# Altium footprint library SamacSys.PcbLib: 128 footprints (part 8 of 8)
Each footprint in its own frame and in the unit in brackets; x right, y up, seen from the top. Pads: shape width x height; smd on the part's side, far side on the other; paste and mask are expansions set on the pad; w line width, h text height; cw(c..) or ccw(c..) is an arc to the next point about the centre after c.
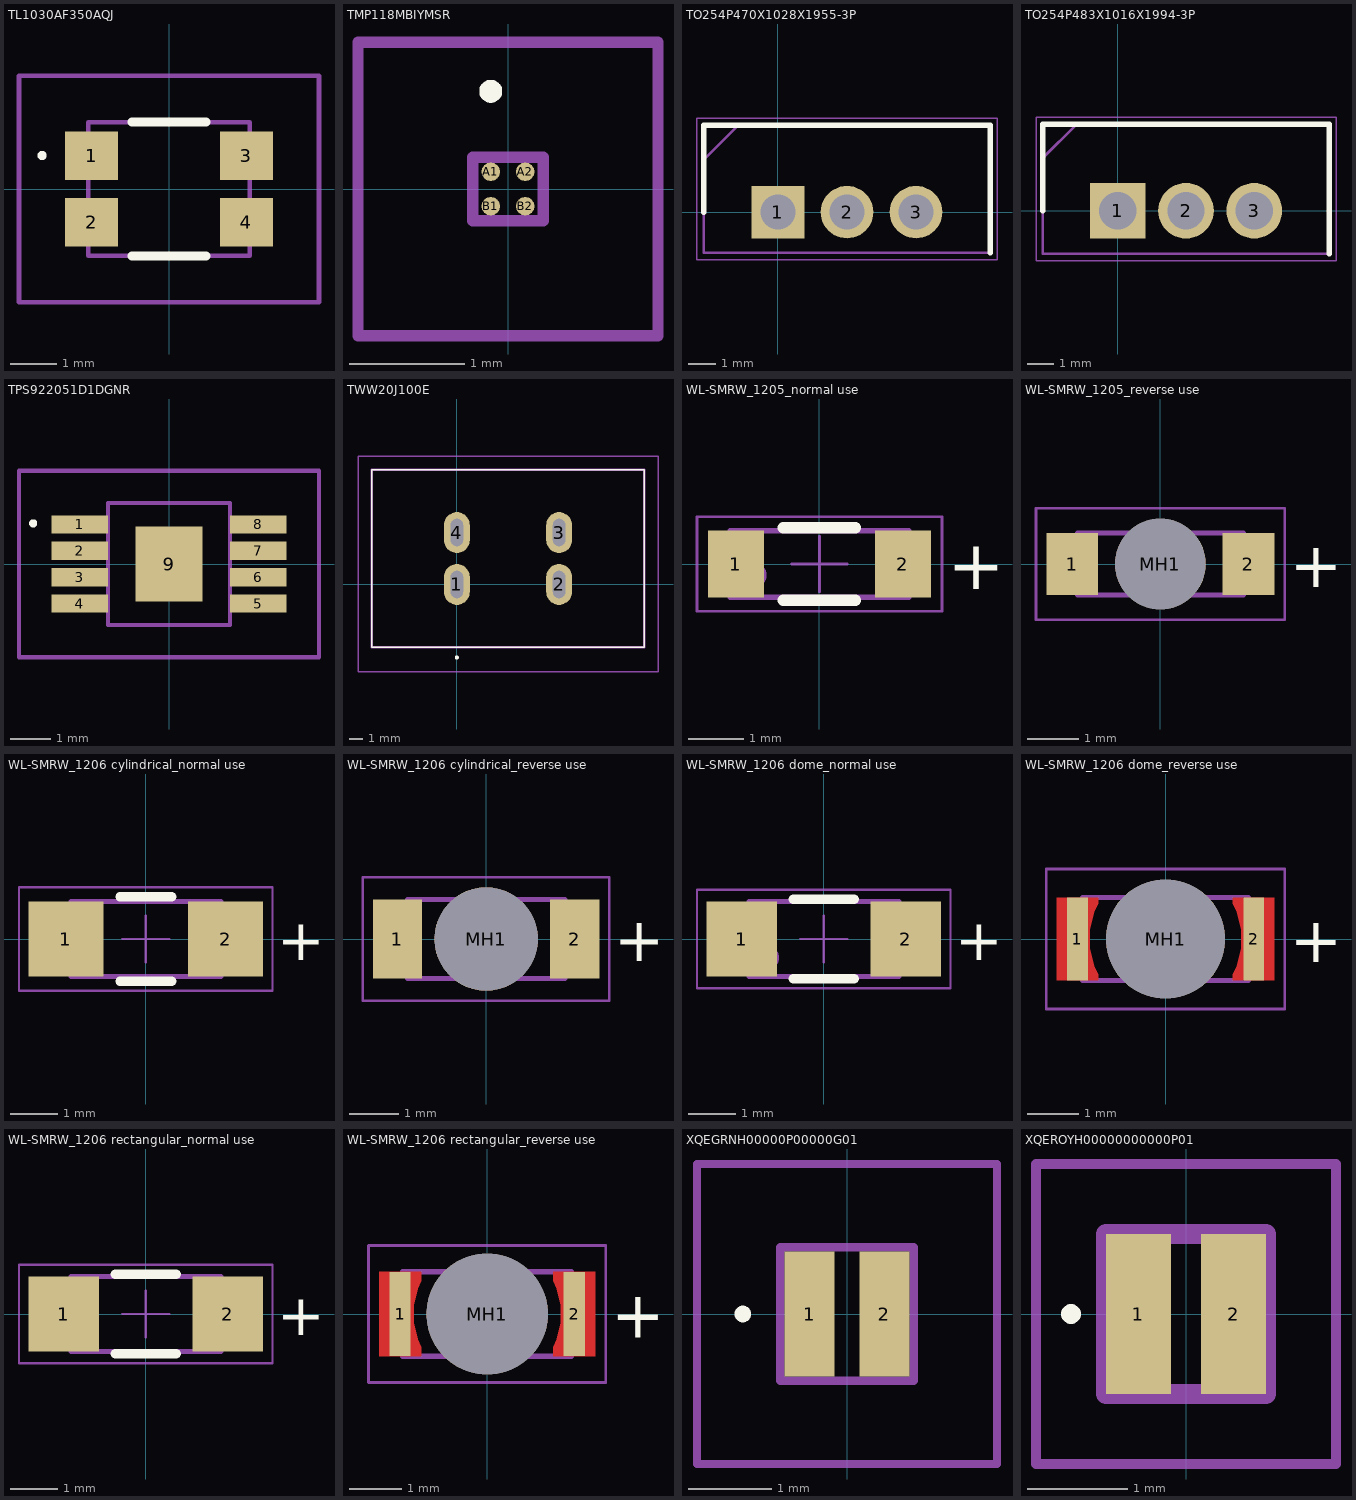
[diagram p7: the footprints below, top view; thin cyan lines are the x and y axes]

## TL1030AF350AQJ [mm]
pads (4):
  rect 1.15x1.05 smd: 1(-1.675,0.725) 2(-1.675,-0.725) 3(1.675,0.725) 4(1.675,-0.725)
Top Overlay:
  lines w0.1: -2.8,0.725 ccw(c-2.75,0.725) -2.7,0.725 ccw(c-2.75,0.725) -2.8,0.725
  lines w0.2: -0.8,-1.45 0.8,-1.45 ; -0.8,1.45 0.8,1.45
Mechanical 13:
  lines w0.1: -1.75,-1.45 1.75,-1.45 1.75,1.45 -1.75,1.45 -1.75,-1.45
Mechanical 15:
  lines w0.1: -3.25,-2.45 3.25,-2.45 3.25,2.45 -3.25,2.45 -3.25,-2.45
3D body "TL1030AF350AQJ.stp": height 1.71, standoff 0, extent -2.157,-1.45 2.157,1.45

## TMP118MBIYMSR [mm]
pads (4):
  round 0.16 smd: A1(-0.15,0.15) A2(0.15,0.15) B1(-0.15,-0.15) B2(0.15,-0.15)
Top Overlay:
  lines w0.1: -0.15,0.8 cw(c-0.15,0.85) -0.15,0.9 cw(c-0.15,0.85) -0.15,0.8
Mechanical 13:
  lines w0.1: -0.305,-0.275 -0.305,0.275 0.305,0.275 0.305,-0.275 -0.305,-0.275
Mechanical 15:
  lines w0.1: -1.305,-1.275 -1.305,1.275 1.305,1.275 1.305,-1.275 -1.305,-1.275
3D body "TMP118MBIYMSR.stp": height 0.34, standoff 0, extent -0.305,-0.275 0.305,0.275

## TO254P470X1028X1955-3P [mm]
pads (3):
  rect 1.935x1.935 hole 1.29: 1(0,0)
  round 1.935 hole 1.29: 2(2.54,0) 3(5.08,0)
Top Overlay:
  lines w0.2: -2.73,0 -2.73,3.2 7.81,3.2 7.81,-1.5
Mechanical 13:
  lines w0.1: -2.73,1.93 -1.46,3.2 ; -2.73,-1.5 -2.73,3.2 7.81,3.2 7.81,-1.5 -2.73,-1.5
Mechanical 15:
  lines w0.05: -2.98,-1.75 -2.98,3.45 8.06,3.45 8.06,-1.75 -2.98,-1.75
3D body "LM7805CT.stp": height 19.38, standoff -9.27, extent -2.54,-1.432 7.62,3.14

## TO254P483X1016X1994-3P [mm]
pads (3):
  rect 2.07x2.07 hole 1.38: 1(0,0)
  round 2.07 hole 1.38: 2(2.54,0) 3(5.08,0)
Top Overlay:
  lines w0.2: -2.795,0 -2.795,3.225 7.875,3.225 7.875,-1.605
Mechanical 13:
  lines w0.1: -2.795,1.955 -1.525,3.225 ; -2.795,-1.605 -2.795,3.225 7.875,3.225 7.875,-1.605 -2.795,-1.605
Mechanical 15:
  lines w0.05: -3.045,-1.855 -3.045,3.475 8.125,3.475 8.125,-1.855 -3.045,-1.855
3D body "IRLB8721PBF.stp": height 18.86, standoff -17.4, extent -2.54,-1.605 7.62,3.225

## TPS922051D1DGNR [mm]
pads (9):
  rect 1.4x0.45 smd: 1(-2.2,0.975) 2(-2.2,0.325) 3(-2.2,-0.325) 4(-2.2,-0.975) 5(2.2,-0.975) 6(2.2,-0.325) 7(2.2,0.325) 8(2.2,0.975)
  rect 1.65x1.84 smd: 9(0,0)
Top Overlay:
  lines w0.1: -3.4,1 ccw(c-3.35,1) -3.3,1 ccw(c-3.35,1) -3.4,1
Mechanical 13:
  lines w0.1: -1.5,-1.5 -1.5,1.5 1.5,1.5 1.5,-1.5 -1.5,-1.5
Mechanical 15:
  lines w0.1: -3.7,-2.3 -3.7,2.3 3.7,2.3 3.7,-2.3 -3.7,-2.3

## TWW20J100E [mm]
pads (4):
  oval 1.9x3 hole 0.9 slot 2 at 90 deg: 1(0,0) 2(7.5,0) 3(7.5,3.81) 4(0,3.81)
Top Overlay:
  lines w0.1: -6.25,-4.595 13.75,-4.595 13.75,8.405 -6.25,8.405 -6.25,-4.595
  lines w0.2: 0,-5.4 cw(c0,-5.35) 0,-5.3 ; 0,-5.4 ccw(c0,-5.35) 0,-5.3 ; 0,-5.4 cw(c0,-5.35) 0,-5.3
Mechanical 13:
  lines w0.2: -6.25,-4.595 13.75,-4.595 13.75,8.405 -6.25,8.405 -6.25,-4.595
Mechanical 15:
  lines w0.1: -7.25,-6.4 14.75,-6.4 14.75,9.405 -7.25,9.405 -7.25,-6.4
3D body "TWW20J100E.stp": height 46.1, standoff -5, extent -6.25,-4.595 13.75,8.405

## WL-SMRW_1205_normal use [mm] "SMD Mono-color Reverse mount Waterclear, body 3.2x1.2mm"
height 1.2
pads (2):
  rect 1x1.2 smd: 1(-1.5,0) 2(1.5,0)
Top Overlay:
  lines w0.2: -0.65,-0.65 0.65,-0.65 ; -0.65,0.65 0.65,0.65
  text "+" at 2.3,-0.45 h0.89
Top Courtyard:
  lines w0.05: -2.2,-0.85 2.2,-0.85 2.2,0.85 -2.2,0.85 -2.2,-0.85
Top Component Outline:
  circle w0.1: c-1.2,-0.2 r0.2
  lines w0.1: -1.6,-0.6 -1.6,0.6 1.6,0.6 1.6,-0.6 -1.6,-0.6
Top Component Center:
  lines w0.05: -0.5,0 0.5,0 ; 0,-0.5 0,0.5
Top Designator:
  text ".Designator" at -4.998,-0.333 h1
3D body "WE-SMRW_1205_rectangular.stp": height 1.1, standoff 0, extent -1.6,-0.6 1.6,0.6

## WL-SMRW_1205_reverse use [mm] "SMD Mono-color Reverse mount Waterclear, body 3.2x1.2mm"
height 0.28
pads (3):
  rect 1x1.2 smd: 1(-1.7,0) 2(1.7,0)
  round 1.75 hole 1.75 unplated: MH1(0,0)
Top Overlay:
  text "+" at 2.5,-0.45 h0.89
Top Courtyard:
  lines w0.05: -2.4,-1.075 -2.4,1.075 2.4,1.075 2.4,-1.075 -2.4,-1.075
Top Component Outline:
  region: 0.35,0.65 0.35,-0.65 0.05,-0.65 0.05,-0.15 -0.25,-0.15 -0.25,0.15 0.05,0.15 0.05,0.65
  lines w0.1: -1.6,-0.6 -1.6,0.6 1.6,0.6 1.6,-0.6 -1.6,-0.6
Top Component Center:
  lines w0.05: -0.5,0 0.5,0 ; 0,-0.5 0,0.5
Top Designator:
  text ".Designator" at -4.998,-0.333 h1
3D body "WE-SMRW_1205_rectangular.stp": height 0.28, standoff -0.82, extent -1.6,-0.6 1.6,0.6

## WL-SMRW_1206 cylindrical_normal use [mm] "SMD Mono-color Reverse mount LED, body 3.2x1.2mm"
height 1.4
pads (2):
  rect 1.6x1.6 smd: 1(-1.7,0) 2(1.7,0)
Top Overlay:
  lines w0.2: -0.55,-0.9 0.55,-0.9 ; -0.55,0.9 0.55,0.9
  text "+" at 2.8,-0.45 h0.89
Top Courtyard:
  lines w0.05: -2.7,-1.1 -2.7,1.1 2.7,1.1 2.7,-1.1 -2.7,-1.1
Top Component Outline:
  rectangle: -1.35,-0.25 -1,0.25
  lines w0.1: -1.6,-0.8 1.6,-0.8 1.6,0.8 -1.6,0.8 -1.6,-0.8
Top Component Center:
  lines w0.05: -0.5,0 0.5,0 ; 0,-0.5 0,0.5
Top Designator:
  text ".Designator" at -4.998,-0.333 h1
3D body "WL-SMRW_1206_cylindrical.stp": height 1.2, standoff 0, extent -1.6,-0.8 1.6,0.8

## WL-SMRW_1206 cylindrical_reverse use [mm] "SMD Mono-color Reverse mount LED, body 3.2x1.2mm"
height 0.4
pads (3):
  rect 1x1.6 smd: 1(-1.8,0) 2(1.8,0)
  round 2.1 hole 2.1 unplated: MH1(0,0)
Top Overlay:
  text "+" at 2.6,-0.45 h0.89
Top Courtyard:
  lines w0.05: -2.5,-1.25 -2.5,1.25 2.5,1.25 2.5,-1.25 -2.5,-1.25
Top Component Outline:
  region: 0.8,0.55 0.8,-0.5 -0.15,-0.5 -0.15,-0.2 -0.75,-0.2 -0.75,0.2 -0.15,0.2 -0.15,0.55
  lines w0.1: -1.6,-0.8 1.6,-0.8 1.6,0.8 -1.6,0.8 -1.6,-0.8
Top Component Center:
  lines w0.05: -0.5,0 0.5,0 ; 0,-0.5 0,0.5
Top Designator:
  text ".Designator" at -4.998,-0.333 h1
3D body "WL-SMRW_1206_cylindrical.stp": height 0.4, standoff -0.8, extent -1.6,-0.8 1.6,0.8

## WL-SMRW_1206 dome_normal use [mm] "SMD Mono-color Reverse mount LED, body 3.2x1.2mm"
height 1.85
pads (2):
  rect 1.5x1.6 smd: 1(-1.75,0) 2(1.75,0)
Top Overlay:
  lines w0.2: -0.65,-0.85 0.65,-0.85 ; -0.65,0.85 0.65,0.85
  text "+" at 2.8,-0.45 h0.89
Top Courtyard:
  lines w0.05: -2.7,-1.05 -2.7,1.05 2.7,1.05 2.7,-1.05 -2.7,-1.05
Top Component Outline:
  circle w0.1: c-1.2,-0.4 r0.2
  lines w0.1: -1.6,-0.8 1.6,-0.8 1.6,0.8 -1.6,0.8 -1.6,-0.8
Top Component Center:
  lines w0.05: -0.5,0 0.5,0 ; 0,-0.5 0,0.5
Top Designator:
  text ".Designator" at -4.998,-0.333 h1
3D body "156120BS82500.stp": height 1.85, standoff 0, extent -1.6,-0.8 1.6,0.8

## WL-SMRW_1206 dome_reverse use [mm] "SMD Mono-color Reverse mount LED, body 3.2x1.2mm"
height 0.3
pads (3):
  rect 0.4x1.6 smd paste-403.566 mask-2539.97: 1(-1.7,0) 2(1.7,0)
  round 2.3 hole 2.3 unplated: MH1(0,0)
Top Layer:
  region: 2.1,-0.8 2.1,0.8 1.3,0.8 1.3,0.687 1.373,0.524 1.459,0.178 1.459,-0.178 1.373,-0.524 1.3,-0.687 1.3,-0.8
  region: -2.1,-0.8 -2.1,0.8 -1.3,0.8 -1.3,0.687 -1.373,0.524 -1.459,0.178 -1.459,-0.178 -1.373,-0.524 -1.3,-0.687 -1.3,-0.8
Top Overlay:
  text "+" at 2.4,-0.45 h0.89
Top Courtyard:
  lines w0.05: -2.3,-1.35 -2.3,1.35 2.3,1.35 2.3,-1.35 -2.3,-1.35
Top Component Outline:
  region: 0.8,0.8 0.8,-0.8 0.4,-0.8 0.4,-0.15 -0.8,-0.15 -0.8,0.15 0.4,0.15 0.4,0.8
  lines w0.1: -1.6,-0.8 1.6,-0.8 1.6,0.8 -1.6,0.8 -1.6,-0.8
Top Component Center:
  lines w0.05: -0.5,0 0.5,0 ; 0,-0.5 0,0.5
Top Designator:
  text ".Designator" at -4.998,-0.333 h1
3D body "156120BS82500.stp": height 0.3, standoff -1.55, extent -1.6,-0.8 1.6,0.8

## WL-SMRW_1206 rectangular_normal use [mm] "SMD Mono-color Reverse mount LED, body 3.2x1.2mm"
height 1.3
pads (2):
  rect 1.5x1.6 smd: 1(-1.75,0) 2(1.75,0)
Top Overlay:
  lines w0.2: -0.65,-0.85 0.65,-0.85 ; -0.65,0.85 0.65,0.85
  text "+" at 2.8,-0.45 h0.89
Top Courtyard:
  lines w0.05: -2.7,-1.05 2.7,-1.05 2.7,1.05 -2.7,1.05 -2.7,-1.05
Top Component Outline:
  lines w0.1: -1.6,-0.8 -1.6,0.8 1.6,0.8 1.6,-0.8 -1.6,-0.8
Top Component Center:
  lines w0.05: -0.5,0 0.5,0 ; 0,-0.5 0,0.5
Top Designator:
  text ".Designator" at -4.998,-0.333 h1
3D body "WL-SMRW_1206_rectangular.stp": height 1.2, standoff 0, extent -1.6,-0.8 1.6,0.8

## WL-SMRW_1206 rectangular_reverse use [mm] "SMD Mono-color Reverse mount LED, body 3.2x1.2mm"
height 0.4
pads (3):
  rect 0.4x1.6 smd paste-403.566 mask-403.566: 1(-1.65,0) 2(1.65,0)
  round 2.3 hole 2.3 unplated: MH1(0,0)
Top Layer:
  region: -2.05,-0.8 -2.05,0.8 -1.25,0.8 -1.25,0.631 -1.315,0.481 -1.39,0.163 -1.39,-0.163 -1.315,-0.481 -1.25,-0.631 -1.25,-0.8
  region: 2.05,-0.8 2.05,0.8 1.25,0.8 1.25,0.631 1.315,0.481 1.39,0.163 1.39,-0.163 1.315,-0.481 1.25,-0.631 1.25,-0.8
Top Overlay:
  text "+" at 2.35,-0.45 h0.89
Top Courtyard:
  lines w0.05: -2.25,-1.3 2.25,-1.3 2.25,1.3 -2.25,1.3 -2.25,-1.3
Top Component Outline:
  region: 0.85,0.8 0.85,-0.8 -0.7,0
  lines w0.1: -1.6,-0.8 1.6,-0.8 1.6,0.8 -1.6,0.8 -1.6,-0.8
Top Component Center:
  lines w0.05: -0.5,0 0.5,0 ; 0,-0.5 0,0.5
Top Designator:
  text ".Designator" at -4.998,-0.333 h1
3D body "WL-SMRW_1206_rectangular.stp": height 0.4, standoff -0.8, extent -1.6,-0.8 1.6,0.8

## XQEGRNH00000P00000G01 [mm]
pads (2):
  rect 0.6x1.5 smd: 1(-0.45,0) 2(0.45,0)
Top Overlay:
  lines w0.1: -1.3,0 ccw(c-1.25,0) -1.2,0 ; -1.3,0 cw(c-1.25,0) -1.2,0 ; -1.3,0 ccw(c-1.25,0) -1.2,0
Mechanical 13:
  lines w0.1: -0.8,-0.8 -0.8,0.8 0.8,0.8 0.8,-0.8 -0.8,-0.8
Mechanical 15:
  lines w0.1: -1.8,-1.8 -1.8,1.8 1.8,1.8 1.8,-1.8 -1.8,-1.8
3D body "XQEGRN-H0-0000-P00000G01.stp": height 0.9, standoff 0, extent -0.8,-0.8 0.8,0.8

## XQEROYH00000000000P01 [mm]
pads (2):
  rect 0.65x1.6 smd: 1(-0.475,0) 2(0.475,0)
Top Overlay:
  lines w0.1: -1.2,0 cw(c-1.15,0) -1.1,0 cw(c-1.15,0) -1.2,0
Mechanical 13:
  lines w0.2: -0.8,-0.8 0.8,-0.8 0.8,0.8 -0.8,0.8 -0.8,-0.8
Mechanical 15:
  lines w0.1: -1.5,-1.5 1.5,-1.5 1.5,1.5 -1.5,1.5 -1.5,-1.5